# Altium footprint library DIRECTFET-L8-V.PcbLib: 1 footprints
Each footprint in its own frame and in the unit in brackets; x right, y up, seen from the top. Pads: shape width x height; smd on the part's side, far side on the other; paste and mask are expansions set on the pad; w line width, h text height; cw(c..) or ccw(c..) is an arc to the next point about the centre after c.
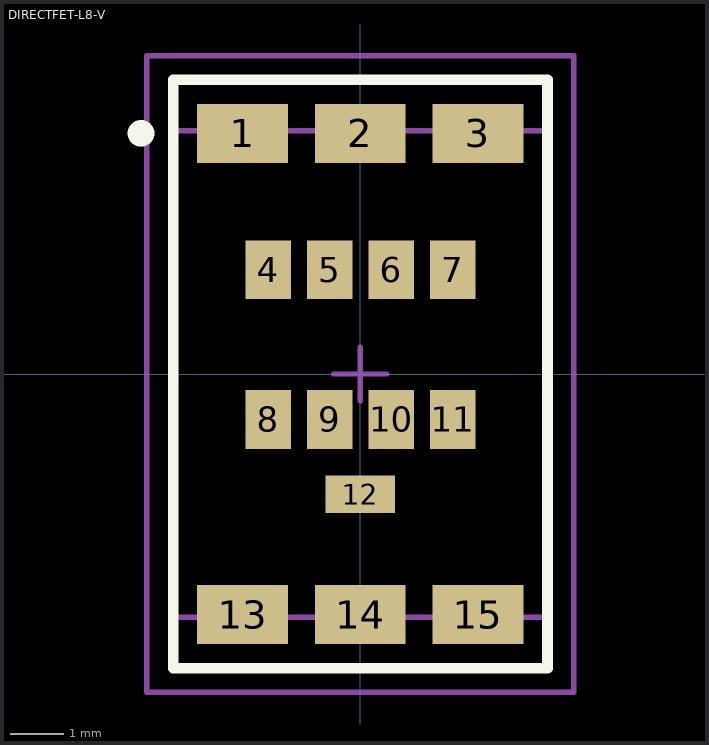
[diagram p0: the footprint, top view; thin cyan lines are the x and y axes]

## DIRECTFET-L8-V [mm] "DIRECTFET, 15 Pin, 9.1mm L X 6.975mm W X 0.74mm H body"
height 0.74
pads (15):
  rect 1.7x1.1 smd paste-0.1 mask+0: 1(-2.2,4.5) 2(0,4.5) 3(2.2,4.5) 13(-2.2,-4.5) 14(0,-4.5) 15(2.2,-4.5)
  rect 0.85x1.1 smd paste-0.6 mask+0: 4(-1.725,1.95) 5(-0.575,1.95) 6(0.575,1.95) 7(1.725,1.95) 8(-1.725,-0.85) 9(-0.575,-0.85) 10(0.575,-0.85) 11(1.725,-0.85)
  rect 1.3x0.7 smd paste-0.4 mask+0: 12(0,-2.25)
Top Overlay:
  circle w0.25: c-4.1,4.5 r0.125
  lines w0.2: -3.5,-5.5 3.5,-5.5 3.5,5.5 -3.5,5.5 -3.5,-5.5
Top Paste:
  region: 1.375,1.45 2.075,1.45 2.075,2.45 1.375,2.45
  region: 0.225,1.45 0.925,1.45 0.925,2.45 0.225,2.45
  region: -0.925,1.45 -0.225,1.45 -0.225,2.45 -0.925,2.45
  region: -2.075,1.45 -1.375,1.45 -1.375,2.45 -2.075,2.45
  region: 1.375,-1.35 2.075,-1.35 2.075,-0.35 1.375,-0.35
  region: 0.225,-1.35 0.925,-1.35 0.925,-0.35 0.225,-0.35
  region: -0.925,-1.35 -0.225,-1.35 -0.225,-0.35 -0.925,-0.35
  region: -2.075,-1.35 -1.375,-1.35 -1.375,-0.35 -2.075,-0.35
  region: 0.55,-2.562 0.55,-1.937 -0.55,-1.937 -0.55,-2.562
M3 (ASY_Text_Top):
  text ".DESIGNATOR" at 0,0 h1.2
M13 (CMP_Body_OTL_Top):
  lines w0.1: -3.487,-4.55 -3.487,4.55 3.487,4.55 3.487,-4.55 -3.487,-4.55
M15 (CMP_Courtyard_Top):
  lines w0.1: -0.5,0 0.5,0 ; 0,-0.5 0,0.5 ; -3.99,-5.95 3.99,-5.95 3.99,5.95 -3.99,5.95 -3.99,-5.95
3D body "WDSON-2-X4.stp": height 0.75, standoff 0, extent -3.488,-4.55 3.487,4.55